# Altium schematic symbol library SCH_IntegratedCircuits.SchLib: 13 symbols
Pins are listed as number, name and electrical type; pins without a type are passive.

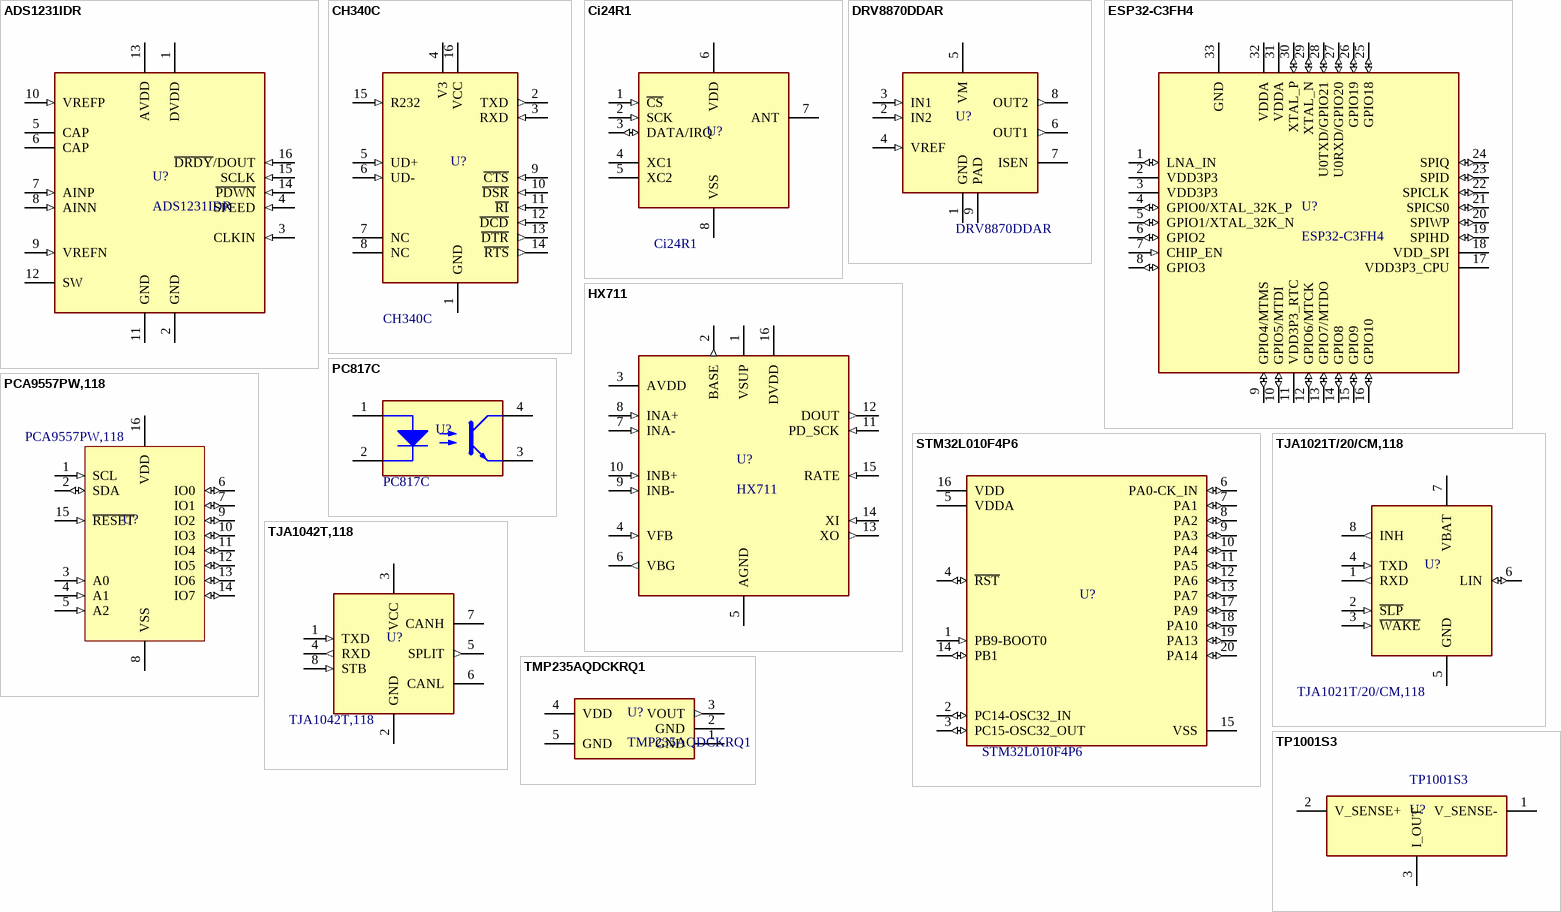
[diagram p0: symbols ADS1231IDR to TP1001S3]

## ADS1231IDR
designator U?
IC ADC 24BIT LOAD CELL 16SOIC; Manufacturer: Texas Instruments; Interface: SPI; Number of Bits: 24; Number of A/D Converters: 1; Operating Supply Voltage: 5V; Sampling Rate: 80S/s; Resolution: 24b; Supply Type: Analog,Digital; Power Dissipation: 5mW; Min Supply Voltage: 3V; Max Supply Voltage: 5.3V; Polarity: Bipolar; Differential Nonlinearity: 1LSB; Input Type: DIFFERENTIAL; Min Supply Voltage (DC): 2.7V; Supplier 1: LCSC; Manufacturer Part Number: ADS1231IDR; RoHS: Yes; Category: ADCs; Stock 1: 1917; Pricing 1: 1=3,35850, 10=2,94480, 30=2,69980, 100=2,25910, 500=2,14460, 1000=2,09370 (USD); Case/Package: SOIC-16; Number of Pins: 16; Contact Plating: Gold; Min Operating Temperature: -40°C; Max Operating Temperature: 85°C; Package Quantity: 2500; Packaging: Tape and Reel; Number of Analog Inputs: 1; Series: -; Number of Converters: 1; Power Consumption: 5mW; Number of Inputs: 1; Number of Elements: 1; Max Supply Voltage (DC): 5.3V; Lead Free: Lead Free; RoHS Compliant: Yes; ComponentLink1URL: https://datasheet.ciiva.com/1304/ads1231-1304621.pdf?src-supplier=Digi-Key; ComponentLink1Description: https://datasheet.ciiva.com/1304/ads1231-1304621.pdf?src-supplier=Digi-Key; Supplier Part Number 1: C486034
footprint SO16
pins: 1 DVDD (power), 2 GND (power), 3 CLKIN (in), 4 SPEED (in), 5 CAP, 6 CAP, 7 AINP (in), 8 AINN (in), 9 VREFN (in), 10 VREFP (in), 11 GND (power), 12 SW, 13 AVDD (power), 14 ~{PDWN} (in), 15 SCLK (in), 16 ~{DRDY}/DOUT (in)

## CH340C
designator U?
IC USB-TO-UART BRIDGE 16SOIC; Manufacturer: WCH(Jiangsu Qin Heng); Interface: UART; Data Rate: 2 Mbps; Supply Voltage: 3.3V, 5V; RoHS: Yes; Category: Interface ICs; Mount: Surface Mount; Case/Package: SOIC-16; Number of Pins: 16; ComponentLink1URL: https://www.mpja.com/download/35227cpdata.pdf; ComponentLink1Description: Datasheet; Manufacturer 1: WCH(Jiangsu Qin Heng); Manufacturer Part Number 1: CH340C; Supplier 1: LCSC; Manufacturer Part Number: CH340C
footprint SO16
pins: 1 GND (power), 2 TXD (out), 3 RXD (in), 4 V3 (power), 5 UD+ (in), 6 UD- (in), 7 NC, 8 NC, 9 ~{CTS} (in), 10 ~{DSR} (in), 11 ~{RI} (in), 12 ~{DCD} (in), 13 ~{DTR} (out), 14 ~{RTS} (out), 15 R232 (in), 16 VCC (power)

## Ci24R1
designator U?
IC RF 2.4GHz TRANSCEIVER 8SOIC; Manufacturer: Nanjing Zhongke Microelectronics; Operating Voltage: 2.1-3.6 V; Current of Transmitting: 18 mA; Frequency Range: 2400MHz~2525MHz; Data Rate: 2 Mbps; Receive Current: 20 mA; Interface: SPI; RoHS: Yes; Category: RF Transceivers; Mount: Surface Mount; Case/Package: SOIC-8; Number of Pins: 8; Packaging: Tape and Reel; RoHS Compliant: Yes; ComponentLink4URL: https://datasheet.lcsc.com/lcsc/2112131130_Nanjing-Zhongke-Microelectronics-Ci24R1_C2909832.pdf; ComponentLink4Description: Datasheet; Manufacturer 1: Nanjing Zhongke Microelectronics; Manufacturer Part Number 1: Ci24R1; Supplier 1: LCSC; Manufacturer Part Number: Ci24R1
footprint SO8
pins: 1 ~{CS} (in), 2 SCK (in), 3 DATA/IRQ (io), 4 XC1, 5 XC2, 6 VDD (power), 7 ANT, 8 VSS (power)

## DRV8870DDAR
designator U?, comment Manufacturer Part Number: DRV8870DDAR  (hidden comment: DRV8870)
IC DRIVER DC MOTOR 3.6A 8SOIC; Manufacturer: Texas Instruments; Interface: PWM; Number of Outputs: 2; Min Supply Voltage: 6.5V; Max Supply Voltage: 45V; Fault Protection: Over Temperature; Operating Supply Current: 3mA; Operating Frequency: 100 kHz; RoHS: Yes; Category: ICs Drivers; Stock 1: 39679; Pricing 1: 1=2,54000, 10=2,28100, 25=2,15200, 100=1,83330, 250=1,72144, 500=1,50626, 1000=1,24804 (USD); Mount: Surface Mount; Number of Pins: 8; Weight: 0.003457oz; Min Operating Temperature: -40°C; Max Operating Temperature: 125°C; Packaging: Cut Tape; Output Current: 3.6A; Max Output Current: 3.6A; Series: -; Technology: NMOS; Operating Supply Voltage: 45V; Package Quantity: 2500; Reach SVHC Compliant: Yes; Lead Free: Lead Free; RoHS Compliant: Yes; ComponentLink1URL: http://www.ti.com/general/docs/lit/getliterature.tsp?genericPartNumber=DRV8870&fileType=pdf&src-supplier=Farnell; ComponentLink1Description: http://www.ti.com/general/docs/lit/getliterature.tsp?genericPartNumber=DRV8870&fileType=pdf&src-supplier=Farnell; ComponentLink2URL: http://www.farnell.com/datasheets/2075773.pdf?src-supplier=Element14; ComponentLink2Description: http://www.farnell.com/datasheets/2075773.pdf?src-supplier=Element14; ComponentLink3URL: http://www.ti.com/lit/ds/symlink/drv8870.pdf?src-supplier=Digi-Key; ComponentLink3Description: http://www.ti.com/lit/ds/symlink/drv8870.pdf?src-supplier=Digi-Key; ComponentLink4URL: http://www.ti.com/general/docs/lit/getliterature.tsp?genericPartNumber=DRV8870&&fileType=pdf&src-supplier=Avnet; ComponentLink4Description: http://www.ti.com/general/docs/lit/getliterature.tsp?genericPartNumber=DRV8870&&fileType=pdf&src-supplier=Avnet; Supplier 1: Digi-Key; Supplier Part Number 1: 296-42660-1-ND; Case/Package: SOIC-8
footprint HSOP8
pins: 1 GND (power), 2 IN2 (in), 3 IN1 (in), 4 VREF (in), 5 VM (power), 6 OUT1 (out), 7 ISEN (power), 8 OUT2 (out), 9 PAD

## ESP32-C3FH4
designator U?
IC MCU WIFI + BLUETOOTH 32QFN; Manufacturer: Espressif Systems; Supplier 1: LCSC; Manufacturer Part Number: ESP32-C3FH4; RoHS: Yes; Stock 1: 2494; Pricing 1: 1=1,96800, 10=1,77390, 30=1,63710, 100=1,49230, 500=1,43510, 1000=1,41120 (USD); Supplier Part Number 1: C2858491; Category: RF Transceiver; Case/Package: QFN-32; ComponentLink1Description: Datasheet; ComponentLink1URL: https://www.espressif.com/sites/default/files/documentation/esp32-c3_datasheet_en.pdf
footprint QFN32_5X5_EXP
pins: 1 LNA_IN (io), 2 VDD3P3 (power), 3 VDD3P3 (power), 4 GPIO0/XTAL_32K_P (io), 5 GPIO1/XTAL_32K_N (io), 6 GPIO2 (io), 7 CHIP_EN (in), 8 GPIO3 (io), 9 GPIO4/MTMS (io), 10 GPIO5/MTDI (io), 11 VDD3P3_RTC (power), 12 GPIO6/MTCK (io), 13 GPIO7/MTDO (io), 14 GPIO8 (io), 15 GPIO9 (io), 16 GPIO10 (io), 17 VDD3P3_CPU (power), 18 VDD_SPI (power), 19 SPIHD (io), 20 SPIWP (io), 21 SPICS0 (io), 22 SPICLK (io), 23 SPID (io), 24 SPIQ (io), 25 GPIO18 (io), 26 GPIO19 (io), 27 U0RXD/GPIO20 (io), 28 U0TXD/GPIO21 (io), 29 XTAL_N (io), 30 XTAL_P (io), 31 VDDA (power), 32 VDDA (power), 33 GND (power)

## HX711
designator U?
IC ADC 24BIT LOAD CELL 16SOIC; Manufacturer: Avia Semiconductor; Supplier 1: LCSC; Manufacturer Part Number: HX711; RoHS: Yes; Category: ADCs; Stock 1: 15183; Pricing 1: 1=0,56480, 10=0,48530, 50=0,42800, 100=0,38190, 500=0,36750, 1000=0,35960 (USD); Supplier Part Number 1: C43656; Case/Package: SOIC-16; ComponentLink1Description: Datasheet; ComponentLink1URL: https://cdn.sparkfun.com/datasheets/Sensors/ForceFlex/hx711_english.pdf
footprint SO16
pins: 1 VSUP (power), 2 BASE (out), 3 AVDD (power), 4 VFB (in), 5 AGND (power), 6 VBG (out), 7 INA- (in), 8 INA+ (in), 9 INB- (in), 10 INB+ (in), 11 PD_SCK (in), 12 DOUT (out), 13 XO (out), 14 XI (in), 15 RATE (in), 16 DVDD (power)

## PC817C
designator U?
IC OPTOCOUPLER TRANSISTOR 4-SMD; Manufacturer: GOODWORK; Number of Channels: 1; Isolation Voltage: 5kV; Supplier 1: LCSC; Stock 1: 63370; Pricing 1: 10=0,03920, 100=0,03190, 300=0,02820, 2000=0,02540, 4000=0,02330, 10000=0,02220 (USD); Case/Package: SMD-4; Mount: Surface Mount; RoHS Compliant: Yes; Supplier Part Number 1: C3025164; ComponentLink1Description: Datasheet; ComponentLink1URL: https://datasheet.lcsc.com/lcsc/2206061700_GOODWORK-PC817C_C3025164.pdf; Category: Optocouplers; Manufacturer Part Number: PC817C
footprint OC_SMD4
pins: 1 A, 2 K, 3 E, 4 C

## PCA9557PW,118
designator U?
IC I/O EXPANDER I2C 16TSSOP; Manufacturer: NXP Semiconductors; Interface: I2C,SMBus,Serial; Min Supply Voltage: 2.3V; Max Supply Voltage: 5.5V; Output Current: 50mA; Nominal Supply Current: 85mA; Number of I/Os: 8; Max Power Dissipation: 200mW; Frequency: 400kHz; RoHS: Yes; Category: Interface ICs; Stock 1: 37684; Pricing 1: 1=1,70000, 10=1,52400, 25=1,43800, 100=1,22520, 250=1,15040, 500=1,00658, 1000=0,90935 (USD); Mount: Surface Mount; Case/Package: TSSOP-16; Number of Pins: 16; Weight: 0.006102oz; Contact Plating: Gold; Min Operating Temperature: -40°C; Max Operating Temperature: 85°C; Packaging: Tape and Reel; Package Quantity: 1; Max Frequency: 400kHz; Series: -; Supply Voltage-Nom: 5.5V; Supply Current: 85mA; Radiation Hardening: No; Lead Free: Lead Free; ComponentLink1URL: https://datasheet.ciiva.com/46390/1786003-46390826.pdf?src-supplier=Element14; ComponentLink1Description: https://datasheet.ciiva.com/46390/1786003-46390826.pdf?src-supplier=Element14; ComponentLink2URL: https://datasheet.ciiva.com/1779/pca9557-1779992.pdf?src-supplier=Digi-Key; ComponentLink2Description: https://datasheet.ciiva.com/1779/pca9557-1779992.pdf?src-supplier=Digi-Key; ComponentLink3URL: https://datasheet.ciiva.com/1779/pca9557-1779991.pdf?src-supplier=Digi-Key; ComponentLink3Description: https://datasheet.ciiva.com/1779/pca9557-1779991.pdf?src-supplier=Digi-Key; ComponentLink4URL: https://datasheet.ciiva.com/1779/pca9557-1779993.pdf?src-supplier=Digi-Key; ComponentLink4Description: https://datasheet.ciiva.com/1779/pca9557-1779993.pdf?src-supplier=Digi-Key; ComponentLink5URL: https://datasheet.ciiva.com/8123/pca9557-8123482.pdf?src-supplier=Avnet; ComponentLink5Description: https://datasheet.ciiva.com/8123/pca9557-8123482.pdf?src-supplier=Avnet; ComponentLink6URL: https://datasheet.ciiva.com/16219/pca9557-16219951.pdf?src-supplier=Future+Electronics; ComponentLink6Description: https://datasheet.ciiva.com/16219/pca9557-16219951.pdf?src-supplier=Future+Electronics; ComponentLink7URL: https://datasheet.ciiva.com/8125/pca9557-8125431.pdf?src-supplier=Avnet; ComponentLink7Description: https://datasheet.ciiva.com/8125/pca9557-8125431.pdf?src-supplier=Avnet; Supplier 1: LCSC; Supplier 2: Digi-Key; Supplier Part Number 1: C141380; Supplier Part Number 2: 568-1061-1-ND; Manufacturer Part Number: PCA9557PW,118
footprint TSSOP16
pins: 1 SCL (in), 2 SDA (io), 3 A0 (in), 4 A1 (in), 5 A2 (in), 6 IO0 (io), 7 IO1 (io), 8 VSS (power), 9 IO2 (io), 10 IO3 (io), 11 IO4 (io), 12 IO5 (io), 13 IO6 (io), 14 IO7 (io), 15 ~{RESET} (in), 16 VDD (power)

## STM32L010F4P6
designator U?
IC MCU 32BIT 16KB FLASH 20TSSOP; Manufacturer: STMicroelectronics; Supplier 1: Digi-Key; RoHS: Yes; Category: Microcontrollers; Stock 1: 7824; Pricing 1: 1=1,82000, 10=1,63100, 25=1,53840, 100=1,31070, 250=1,23068, 500=1,07684, 1000=0,89224, 2500=0,83910 (USD); ComponentLink1URL: http://www.farnell.com/datasheets/2710889.pdf?src-supplier=Farnell; ComponentLink1Description: http://www.farnell.com/datasheets/2710889.pdf?src-supplier=Farnell; ComponentLink2URL: http://www.farnell.com/datasheets/2710889.pdf?src-supplier=Newark; ComponentLink2Description: http://www.farnell.com/datasheets/2710889.pdf?src-supplier=Newark; Supplier Part Number 1: 497-19364-ND; Case/Package: TSSOP-20; Manufacturer Part Number: STM32L010F4P6
footprint TSSOP20
pins: 1 PB9-BOOT0 (in), 2 PC14-OSC32_IN (io), 3 PC15-OSC32_OUT (io), 4 ~{RST} (io), 5 VDDA (power), 6 PA0-CK_IN (io), 7 PA1 (io), 8 PA2 (io), 9 PA3 (io), 10 PA4 (io), 11 PA5 (io), 12 PA6 (io), 13 PA7 (io), 14 PB1 (io), 15 VSS (power), 16 VDD (power), 17 PA9 (io), 18 PA10 (io), 19 PA13 (io), 20 PA14 (io)

## TJA1021T/20/CM,118
designator U?, comment Manufacturer Part Number: TJA1021T/20/CM,118  (hidden comment: TJA1021T)
IC TRANSCEIVER LIN 8SOIC; Manufacturer: NXP Semiconductors; Min Supply Voltage: 5.5V; Max Supply Voltage: 27V; Number of Transmitters: 1; Max Supply Current: 4mA; Baud Rate: 20Kbaud; Simplex/Duplex: Full Duplex; Receiver Hysteresis: 175mV; RoHS: Yes; Category: Interface ICs; Pricing 1: 1=1,52000, 10=1,39000, 50=1,32000, 100=1,12000, 1000=0,83600, 10000=0,80400 (USD); Mount: Surface Mount; Case/Package: SOIC-8; Number of Pins: 8; Packaging: Tape and Reel; Series: -; Reach SVHC Compliant: Yes; RoHS Compliant: Yes; ComponentLink1URL: http://components.arrow.com/part/dataview/57164935S711863N7788?src-supplier=Arrow+Electronics; ComponentLink1Description: http://components.arrow.com/part/dataview/57164935S711863N7788?src-supplier=Arrow+Electronics; ComponentLink2URL: http://www.mouser.com/ds/2/302/TJA1021-1127848.pdf?src-supplier=Mouser; ComponentLink2Description: http://www.mouser.com/ds/2/302/TJA1021-1127848.pdf?src-supplier=Mouser; ComponentLink3URL: http://www.farnell.com/datasheets/1730176.pdf?src-supplier=Farnell; ComponentLink3Description: http://www.farnell.com/datasheets/1730176.pdf?src-supplier=Farnell; ComponentLink4URL: http://www.nxp.com/documents/data_sheet/TJA1021.pdf?src-supplier=Avnet; ComponentLink4Description: http://www.nxp.com/documents/data_sheet/TJA1021.pdf?src-supplier=Avnet; ComponentLink5URL: http://www.farnell.com/datasheets/1730176.pdf?src-supplier=Element14; ComponentLink5Description: http://www.farnell.com/datasheets/1730176.pdf?src-supplier=Element14; Supplier 1: LCSC; Supplier Part Number 1: C128810
footprint SO8
pins: 1 RXD (out), 2 ~{SLP} (in), 3 ~{WAKE} (in), 4 TXD (in), 5 GND (power), 6 LIN (io), 7 VBAT (power), 8 INH (out)

## TJA1042T,118
designator U?, comment Manufacturer Part Number: TJA1042T,118  (hidden comment: TJA1042T)
IC TRANSCEIVER HALF CANBUS 8SOIC; Manufacturer: NXP Semiconductors; Data Rate: 5Mbps; Min Supply Voltage: 4.5V; Max Supply Voltage: 5.5V; Number of Transceivers: 1; Max Supply Current: 70mA; Interface: CAN; Propagation Delay: 90ns; Turn-On Delay Time: 250ns; Operating Supply Current: 80mA; RoHS: Yes; Category: Interface ICs; Stock 1: 6838; Pricing 1: 1=1,85000, 10=1,66400, 25=1,56960, 100=1,33720, 250=1,25560, 500=1,09864, 1000=0,99251 (USD); Mount: Surface Mount; Case/Package: SOIC-8; Number of Pins: 8; Contact Plating: Gold; Weight: 0.00248oz; Min Operating Temperature: -40°C; Max Operating Temperature: 150°C; Packaging: Cut Tape; Series: TJA1042; Nominal Supply Current: 70mA; Package Quantity: 2500; Type: Integrated Circuit (IC); Number of Drivers: 1; Number of Receivers: 1; Radiation Hardening: No; RoHS Compliant: Yes; Lead Free: Lead Free; ComponentLink1URL: https://datasheet.ciiva.com/4781/tja1042-120193-4781371.pdf?src-supplier=Mouser; ComponentLink1Description: https://datasheet.ciiva.com/4781/tja1042-120193-4781371.pdf?src-supplier=Mouser; ComponentLink2URL: https://datasheet.ciiva.com/15149/getdatasheetpartid-295270-15149994.pdf?src-supplier=Verical; ComponentLink2Description: https://datasheet.ciiva.com/15149/getdatasheetpartid-295270-15149994.pdf?src-supplier=Verical; Supplier 1: LCSC; Supplier 2: Mouser; Supplier Part Number 1: C53670; Supplier Part Number 2: 771-TJA1042T,118
footprint SO8
pins: 1 TXD (in), 2 GND (power), 3 VCC (power), 4 RXD (out), 5 SPLIT (out), 6 CANL, 7 CANH, 8 STB (in)

## TMP235AQDCKRQ1
designator U?
IC ANALOG TEMPERATURE SENSOR SC70-5; Manufacturer: Texas Instruments; Supplier 1: LCSC; Manufacturer Part Number: TMP235AQDCKRQ1; RoHS: Yes; Category: Sensors; Stock 1: 715; Pricing 1: 5=0,28890, 50=0,22760, 150=0,19760, 500=0,17090, 3000=0,16360, 6000=0,15920 (USD); ComponentLink1URL: https://www.ti.com/lit/ds/symlink/tmp235.pdf; ComponentLink1Description: Datasheet; Supplier Part Number 1: C2878898; Case/Package: SC70-5
footprint SC70-5
pins: 1 GND (power), 2 GND (power), 3 VOUT (out), 4 VDD (power), 5 GND (power)

## TP1001S3
designator U?
IC CURRENT-SENSING SOT-23-3; Manufacturer: Tech Public; Supplier 1: LCSC; Category: Sensors; Stock 1: 8278; Pricing 1: 1=0,34850, 10=0,27850, 30=0,24820, 100=0,21000, 500=0,19410, 1000=0,18300 (USD); ComponentLink1Description: Datasheet; ComponentLink1URL: https://datasheet.lcsc.com/lcsc/2108131930_TECH-PUBLIC-TP1001S3_C521983.pdf; Supplier Part Number 1: C521983; Case/Package: SOT-23-3; Manufacturer Part Number: TP1001S3
footprint SOT-23-3
pins: 1 V_SENSE-, 2 V_SENSE+, 3 I_OUT